# Altium schematic symbol library spacemonochrome-WR_TBL.SchLib: 1696 symbols (part 23 of 28)
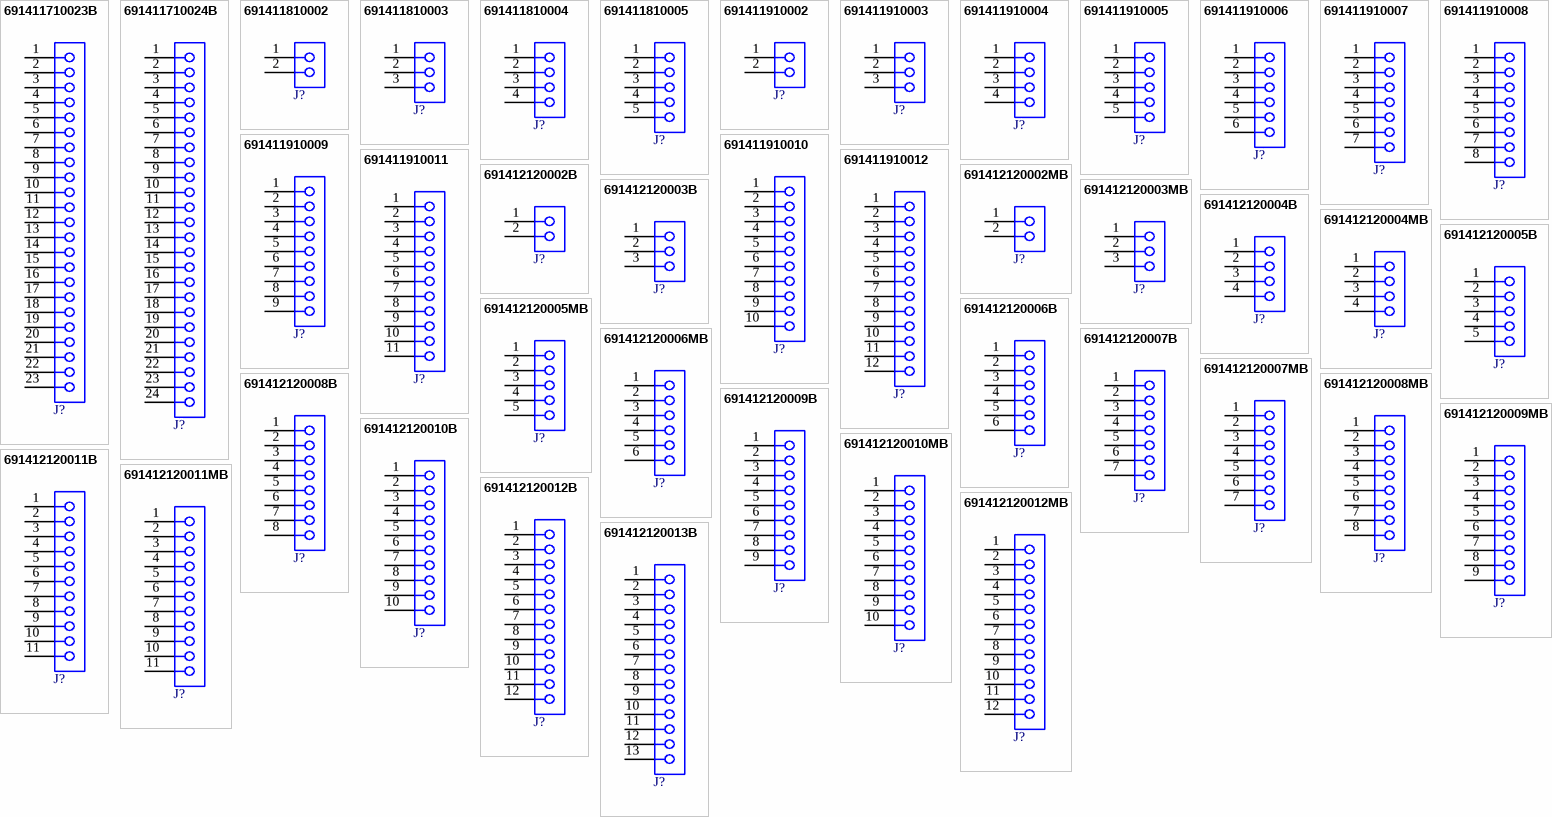
[diagram p64: symbols 691411710023B to 691412120013B]

## 691411810004
designator J?  (value not drawn)
WR-TBL Series 4118 Horizontal Entry, THT, pitch 10mm, 4p; Manufacturer: Wurth Elektronik; Modularity: No; Rated Current: 10A; Working Voltage: 300V; ComponentLink1Description: Website Link; ComponentLink1URL: https://www.we-online.com/redexpert/article/691411810004?ad; ComponentLink2Description: Datasheet Link; ComponentLink2URL: https://www.we-online.com/redexpert/spec/691411810004?ad; Manufacturer Part Number: 691411810004; Category: Terminal Blocks; Match Code: WR-TBL; Mount: Through Hole; Operating Temperature Max: 120°C; Operating Temperature Min: -30°C; Packaging: Box; Application: Screwless; Number of Pins: 4; Number of Rows: 1; Orientation: Horizontal; Pitch: 10mm
footprint 691411810004
pins: 1, 2, 3, 4

## 691411810005
designator J?  (value not drawn)
WR-TBL Series 4118 Horizontal Entry, THT, pitch 10mm, 5p; Manufacturer: Wurth Elektronik; Modularity: No; Rated Current: 10A; Working Voltage: 300V; ComponentLink1Description: Website Link; ComponentLink1URL: https://www.we-online.com/redexpert/article/691411810005?ad; ComponentLink2Description: Datasheet Link; ComponentLink2URL: https://www.we-online.com/redexpert/spec/691411810005?ad; Manufacturer Part Number: 691411810005; Category: Terminal Blocks; Match Code: WR-TBL; Mount: Through Hole; Operating Temperature Max: 120°C; Operating Temperature Min: -30°C; Packaging: Box; Application: Screwless; Number of Pins: 5; Number of Rows: 1; Orientation: Horizontal; Pitch: 10mm
footprint 691411810005
pins: 1, 2, 3, 4, 5

## 691411910002
designator J?  (value not drawn)
WR-TBL Series 4119 Horizontal Entry, THT, pitch 7.5mm, 2p; Manufacturer: Wurth Elektronik; Modularity: No; Rated Current: 10A; Working Voltage: 300V; ComponentLink1Description: Website Link; ComponentLink1URL: https://www.we-online.com/redexpert/article/691411910002?ad; ComponentLink2Description: Datasheet Link; ComponentLink2URL: https://www.we-online.com/redexpert/spec/691411910002?ad; Manufacturer Part Number: 691411910002; Category: Terminal Blocks; Match Code: WR-TBL; Mount: Through Hole; Operating Temperature Max: 120°C; Operating Temperature Min: -30°C; Packaging: Box; Application: Screwless; Number of Pins: 2; Number of Rows: 1; Orientation: Horizontal; Pitch: 7.5mm
footprint 691411910002
pins: 1, 2

## 691411910003
designator J?  (value not drawn)
WR-TBL Series 4119 Horizontal Entry, THT, pitch 7.5mm, 3p; Manufacturer: Wurth Elektronik; Modularity: No; Rated Current: 10A; Working Voltage: 300V; ComponentLink1Description: Website Link; ComponentLink1URL: https://www.we-online.com/redexpert/article/691411910003?ad; ComponentLink2Description: Datasheet Link; ComponentLink2URL: https://www.we-online.com/redexpert/spec/691411910003?ad; Manufacturer Part Number: 691411910003; Category: Terminal Blocks; Match Code: WR-TBL; Mount: Through Hole; Operating Temperature Max: 120°C; Operating Temperature Min: -30°C; Packaging: Box; Application: Screwless; Number of Pins: 3; Number of Rows: 1; Orientation: Horizontal; Pitch: 7.5mm
footprint 691411910003
pins: 1, 2, 3

## 691411910004
designator J?  (value not drawn)
WR-TBL Series 4119 Horizontal Entry, THT, pitch 7.5mm, 4p; Manufacturer: Wurth Elektronik; Modularity: No; Rated Current: 10A; Working Voltage: 300V; ComponentLink1Description: Website Link; ComponentLink1URL: https://www.we-online.com/redexpert/article/691411910004?ad; ComponentLink2Description: Datasheet Link; ComponentLink2URL: https://www.we-online.com/redexpert/spec/691411910004?ad; Manufacturer Part Number: 691411910004; Category: Terminal Blocks; Match Code: WR-TBL; Mount: Through Hole; Operating Temperature Max: 120°C; Operating Temperature Min: -30°C; Packaging: Box; Application: Screwless; Number of Pins: 4; Number of Rows: 1; Orientation: Horizontal; Pitch: 7.5mm
footprint 691411910004
pins: 1, 2, 3, 4

## 691411910005
designator J?  (value not drawn)
WR-TBL Series 4119 Horizontal Entry, THT, pitch 7.5mm, 5p; Manufacturer: Wurth Elektronik; Modularity: No; Rated Current: 10A; Working Voltage: 300V; ComponentLink1Description: Website Link; ComponentLink1URL: https://www.we-online.com/redexpert/article/691411910005?ad; ComponentLink2Description: Datasheet Link; ComponentLink2URL: https://www.we-online.com/redexpert/spec/691411910005?ad; Manufacturer Part Number: 691411910005; Category: Terminal Blocks; Match Code: WR-TBL; Mount: Through Hole; Operating Temperature Max: 120°C; Operating Temperature Min: -30°C; Packaging: Box; Application: Screwless; Number of Pins: 5; Number of Rows: 1; Orientation: Horizontal; Pitch: 7.5mm
footprint 691411910005
pins: 1, 2, 3, 4, 5

## 691411910006
designator J?  (value not drawn)
WR-TBL Series 4119 Horizontal Entry, THT, pitch 7.5mm, 6p; Manufacturer: Wurth Elektronik; Modularity: No; Rated Current: 10A; Working Voltage: 300V; ComponentLink1Description: Website Link; ComponentLink1URL: https://www.we-online.com/redexpert/article/691411910006?ad; ComponentLink2Description: Datasheet Link; ComponentLink2URL: https://www.we-online.com/redexpert/spec/691411910006?ad; Manufacturer Part Number: 691411910006; Category: Terminal Blocks; Match Code: WR-TBL; Mount: Through Hole; Operating Temperature Max: 120°C; Operating Temperature Min: -30°C; Packaging: Box; Application: Screwless; Number of Pins: 6; Number of Rows: 1; Orientation: Horizontal; Pitch: 7.5mm
footprint 691411910006
pins: 1, 2, 3, 4, 5, 6

## 691411910007
designator J?  (value not drawn)
WR-TBL Series 4119 Horizontal Entry, THT, pitch 7.5mm, 7p; Manufacturer: Wurth Elektronik; Modularity: No; Rated Current: 10A; Working Voltage: 300V; ComponentLink1Description: Website Link; ComponentLink1URL: https://www.we-online.com/redexpert/article/691411910007?ad; ComponentLink2Description: Datasheet Link; ComponentLink2URL: https://www.we-online.com/redexpert/spec/691411910007?ad; Manufacturer Part Number: 691411910007; Category: Terminal Blocks; Match Code: WR-TBL; Mount: Through Hole; Operating Temperature Max: 120°C; Operating Temperature Min: -30°C; Packaging: Box; Application: Screwless; Number of Pins: 7; Number of Rows: 1; Orientation: Horizontal; Pitch: 7.5mm
footprint 691411910007
pins: 1, 2, 3, 4, 5, 6, 7

## 691411910008
designator J?  (value not drawn)
WR-TBL Series 4119 Horizontal Entry, THT, pitch 7.5mm, 8p; Manufacturer: Wurth Elektronik; Modularity: No; Rated Current: 10A; Working Voltage: 300V; ComponentLink1Description: Website Link; ComponentLink1URL: https://www.we-online.com/redexpert/article/691411910008?ad; ComponentLink2Description: Datasheet Link; ComponentLink2URL: https://www.we-online.com/redexpert/spec/691411910008?ad; Manufacturer Part Number: 691411910008; Category: Terminal Blocks; Match Code: WR-TBL; Mount: Through Hole; Operating Temperature Max: 120°C; Operating Temperature Min: -30°C; Packaging: Box; Application: Screwless; Number of Pins: 8; Number of Rows: 1; Orientation: Horizontal; Pitch: 7.5mm
footprint 691411910008
pins: 1, 2, 3, 4, 5, 6, 7, 8

## 691411910009
designator J?  (value not drawn)
WR-TBL Series 4119 Horizontal Entry, THT, pitch 7.5mm, 9p; Manufacturer: Wurth Elektronik; Modularity: No; Rated Current: 10A; Working Voltage: 300V; ComponentLink1Description: Website Link; ComponentLink1URL: https://www.we-online.com/redexpert/article/691411910009?ad; ComponentLink2Description: Datasheet Link; ComponentLink2URL: https://www.we-online.com/redexpert/spec/691411910009?ad; Manufacturer Part Number: 691411910009; Category: Terminal Blocks; Match Code: WR-TBL; Mount: Through Hole; Operating Temperature Max: 120°C; Operating Temperature Min: -30°C; Packaging: Box; Application: Screwless; Number of Pins: 9; Number of Rows: 1; Orientation: Horizontal; Pitch: 7.5mm
footprint 691411910009
pins: 1, 2, 3, 4, 5, 6, 7, 8, 9

## 691411910010
designator J?  (value not drawn)
WR-TBL Series 4119 Horizontal Entry, THT, pitch 7.5mm, 10p; Manufacturer: Wurth Elektronik; Modularity: No; Rated Current: 10A; Working Voltage: 300V; ComponentLink1Description: Website Link; ComponentLink1URL: https://www.we-online.com/redexpert/article/691411910010?ad; ComponentLink2Description: Datasheet Link; ComponentLink2URL: https://www.we-online.com/redexpert/spec/691411910010?ad; Manufacturer Part Number: 691411910010; Category: Terminal Blocks; Match Code: WR-TBL; Mount: Through Hole; Operating Temperature Max: 120°C; Operating Temperature Min: -30°C; Packaging: Box; Application: Screwless; Number of Pins: 10; Number of Rows: 1; Orientation: Horizontal; Pitch: 7.5mm
footprint 691411910010
pins: 1, 2, 3, 4, 5, 6, 7, 8, 9, 10

## 691411910011
designator J?  (value not drawn)
WR-TBL Series 4119 Horizontal Entry, THT, pitch 7.5mm, 11p; Manufacturer: Wurth Elektronik; Modularity: No; Rated Current: 10A; Working Voltage: 300V; ComponentLink1Description: Website Link; ComponentLink1URL: https://www.we-online.com/redexpert/article/691411910011?ad; ComponentLink2Description: Datasheet Link; ComponentLink2URL: https://www.we-online.com/redexpert/spec/691411910011?ad; Manufacturer Part Number: 691411910011; Category: Terminal Blocks; Match Code: WR-TBL; Mount: Through Hole; Operating Temperature Max: 120°C; Operating Temperature Min: -30°C; Packaging: Box; Application: Screwless; Number of Pins: 11; Number of Rows: 1; Orientation: Horizontal; Pitch: 7.5mm
footprint 691411910011
pins: 1, 2, 3, 4, 5, 6, 7, 8, 9, 10, 11

## 691411910012
designator J?  (value not drawn)
WR-TBL Series 4119 Horizontal Entry, THT, pitch 7.5mm, 12p; Manufacturer: Wurth Elektronik; Modularity: No; Rated Current: 10A; Working Voltage: 300V; ComponentLink1Description: Website Link; ComponentLink1URL: https://www.we-online.com/redexpert/article/691411910012?ad; ComponentLink2Description: Datasheet Link; ComponentLink2URL: https://www.we-online.com/redexpert/spec/691411910012?ad; Manufacturer Part Number: 691411910012; Category: Terminal Blocks; Match Code: WR-TBL; Mount: Through Hole; Operating Temperature Max: 120°C; Operating Temperature Min: -30°C; Packaging: Box; Application: Screwless; Number of Pins: 12; Number of Rows: 1; Orientation: Horizontal; Pitch: 7.5mm
footprint 691411910012
pins: 1, 2, 3, 4, 5, 6, 7, 8, 9, 10, 11, 12

## 691412120002B
designator J?  (value not drawn)
WR-TBL Series 412B 45° Entry, THT, pitch 3.5mm, 2p; Manufacturer: Wurth Elektronik; Modularity: No; Rated Current: 6A; Working Voltage: 300V; ComponentLink1Description: Website Link; ComponentLink1URL: https://www.we-online.com/redexpert/article/691412120002B?ad; ComponentLink2Description: Datasheet Link; ComponentLink2URL: https://www.we-online.com/redexpert/spec/691412120002B?ad; Manufacturer Part Number: 691412120002B; Category: Terminal Blocks; Match Code: WR-TBL; Mount: Through Hole; Operating Temperature Max: 105°C; Operating Temperature Min: -40°C; Packaging: Box; Application: Screwless; Number of Pins: 2; Number of Rows: 1; Orientation: 45°; Pitch: 3.5mm
footprint 691412120002B
pins: 1, 2

## 691412120002MB
designator J?  (value not drawn)
WR-TBL Series 412MB 45° Entry, THT, pitch 3.5mm, 2p; Manufacturer: Wurth Elektronik; Modularity: No; Rated Current: 6A; Working Voltage: 300V; ComponentLink1Description: Website Link; ComponentLink1URL: https://www.we-online.com/redexpert/article/691412120002MB?ad; ComponentLink2Description: Datasheet Link; ComponentLink2URL: https://www.we-online.com/redexpert/spec/691412120002MB?ad; Manufacturer Part Number: 691412120002MB; Category: Terminal Blocks; Match Code: WR-TBL; Mount: Through Hole; Operating Temperature Max: 105°C; Operating Temperature Min: -40°C; Packaging: Box; Application: Screwless; Number of Pins: 2; Number of Rows: 1; Orientation: 45°; Pitch: 3.5mm
footprint 691412120002MB
pins: 1, 2

## 691412120003B
designator J?  (value not drawn)
WR-TBL Series 412B 45° Entry, THT, pitch 3.5mm, 3p; Manufacturer: Wurth Elektronik; Modularity: No; Rated Current: 6A; Working Voltage: 300V; ComponentLink1Description: Website Link; ComponentLink1URL: https://www.we-online.com/redexpert/article/691412120003B?ad; ComponentLink2Description: Datasheet Link; ComponentLink2URL: https://www.we-online.com/redexpert/spec/691412120003B?ad; Manufacturer Part Number: 691412120003B; Category: Terminal Blocks; Match Code: WR-TBL; Mount: Through Hole; Operating Temperature Max: 105°C; Operating Temperature Min: -40°C; Packaging: Box; Application: Screwless; Number of Pins: 3; Number of Rows: 1; Orientation: 45°; Pitch: 3.5mm
footprint 691412120003B
pins: 1, 2, 3

## 691412120003MB
designator J?  (value not drawn)
WR-TBL Series 412MB 45° Entry, THT, pitch 3.5mm, 3p; Manufacturer: Wurth Elektronik; Modularity: No; Rated Current: 6A; Working Voltage: 300V; ComponentLink1Description: Website Link; ComponentLink1URL: https://www.we-online.com/redexpert/article/691412120003MB?ad; ComponentLink2Description: Datasheet Link; ComponentLink2URL: https://www.we-online.com/redexpert/spec/691412120003MB?ad; Manufacturer Part Number: 691412120003MB; Category: Terminal Blocks; Match Code: WR-TBL; Mount: Through Hole; Operating Temperature Max: 105°C; Operating Temperature Min: -40°C; Packaging: Box; Application: Screwless; Number of Pins: 3; Number of Rows: 1; Orientation: 45°; Pitch: 3.5mm
footprint 691412120003MB
pins: 1, 2, 3

## 691412120004B
designator J?  (value not drawn)
WR-TBL Series 412B 45° Entry, THT, pitch 3.5mm, 4p; Manufacturer: Wurth Elektronik; Modularity: No; Rated Current: 6A; Working Voltage: 300V; ComponentLink1Description: Website Link; ComponentLink1URL: https://www.we-online.com/redexpert/article/691412120004B?ad; ComponentLink2Description: Datasheet Link; ComponentLink2URL: https://www.we-online.com/redexpert/spec/691412120004B?ad; Manufacturer Part Number: 691412120004B; Category: Terminal Blocks; Match Code: WR-TBL; Mount: Through Hole; Operating Temperature Max: 105°C; Operating Temperature Min: -40°C; Packaging: Box; Application: Screwless; Number of Pins: 4; Number of Rows: 1; Orientation: 45°; Pitch: 3.5mm
footprint 691412120004B
pins: 1, 2, 3, 4

## 691412120004MB
designator J?  (value not drawn)
WR-TBL Series 412MB 45° Entry, THT, pitch 3.5mm, 4p; Manufacturer: Wurth Elektronik; Modularity: No; Rated Current: 6A; Working Voltage: 300V; ComponentLink1Description: Website Link; ComponentLink1URL: https://www.we-online.com/redexpert/article/691412120004MB?ad; ComponentLink2Description: Datasheet Link; ComponentLink2URL: https://www.we-online.com/redexpert/spec/691412120004MB?ad; Manufacturer Part Number: 691412120004MB; Category: Terminal Blocks; Match Code: WR-TBL; Mount: Through Hole; Operating Temperature Max: 105°C; Operating Temperature Min: -40°C; Packaging: Box; Application: Screwless; Number of Pins: 4; Number of Rows: 1; Orientation: 45°; Pitch: 3.5mm
footprint 691412120004MB
pins: 1, 2, 3, 4

## 691412120005B
designator J?  (value not drawn)
WR-TBL Series 412B 45° Entry, THT, pitch 3.5mm, 5p; Manufacturer: Wurth Elektronik; Modularity: No; Rated Current: 6A; Working Voltage: 300V; ComponentLink1Description: Website Link; ComponentLink1URL: https://www.we-online.com/redexpert/article/691412120005B?ad; ComponentLink2Description: Datasheet Link; ComponentLink2URL: https://www.we-online.com/redexpert/spec/691412120005B?ad; Manufacturer Part Number: 691412120005B; Category: Terminal Blocks; Match Code: WR-TBL; Mount: Through Hole; Operating Temperature Max: 105°C; Operating Temperature Min: -40°C; Packaging: Box; Application: Screwless; Number of Pins: 5; Number of Rows: 1; Orientation: 45°; Pitch: 3.5mm
footprint 691412120005B
pins: 1, 2, 3, 4, 5

## 691412120005MB
designator J?  (value not drawn)
WR-TBL Series 412MB 45° Entry, THT, pitch 3.5mm, 5p; Manufacturer: Wurth Elektronik; Modularity: No; Rated Current: 6A; Working Voltage: 300V; ComponentLink1Description: Website Link; ComponentLink1URL: https://www.we-online.com/redexpert/article/691412120005MB?ad; ComponentLink2Description: Datasheet Link; ComponentLink2URL: https://www.we-online.com/redexpert/spec/691412120005MB?ad; Manufacturer Part Number: 691412120005MB; Category: Terminal Blocks; Match Code: WR-TBL; Mount: Through Hole; Operating Temperature Max: 105°C; Operating Temperature Min: -40°C; Packaging: Box; Application: Screwless; Number of Pins: 5; Number of Rows: 1; Orientation: 45°; Pitch: 3.5mm
footprint 691412120005MB
pins: 1, 2, 3, 4, 5

## 691412120006B
designator J?  (value not drawn)
WR-TBL Series 412B 45° Entry, THT, pitch 3.5mm, 6p; Manufacturer: Wurth Elektronik; Modularity: No; Rated Current: 6A; Working Voltage: 300V; ComponentLink1Description: Website Link; ComponentLink1URL: https://www.we-online.com/redexpert/article/691412120006B?ad; ComponentLink2Description: Datasheet Link; ComponentLink2URL: https://www.we-online.com/redexpert/spec/691412120006B?ad; Manufacturer Part Number: 691412120006B; Category: Terminal Blocks; Match Code: WR-TBL; Mount: Through Hole; Operating Temperature Max: 105°C; Operating Temperature Min: -40°C; Packaging: Box; Application: Screwless; Number of Pins: 6; Number of Rows: 1; Orientation: 45°; Pitch: 3.5mm
footprint 691412120006B
pins: 1, 2, 3, 4, 5, 6

## 691412120006MB
designator J?  (value not drawn)
WR-TBL Series 412MB 45° Entry, THT, pitch 3.5mm, 6p; Manufacturer: Wurth Elektronik; Modularity: No; Rated Current: 6A; Working Voltage: 300V; ComponentLink1Description: Website Link; ComponentLink1URL: https://www.we-online.com/redexpert/article/691412120006MB?ad; ComponentLink2Description: Datasheet Link; ComponentLink2URL: https://www.we-online.com/redexpert/spec/691412120006MB?ad; Manufacturer Part Number: 691412120006MB; Category: Terminal Blocks; Match Code: WR-TBL; Mount: Through Hole; Operating Temperature Max: 105°C; Operating Temperature Min: -40°C; Packaging: Box; Application: Screwless; Number of Pins: 6; Number of Rows: 1; Orientation: 45°; Pitch: 3.5mm
footprint 691412120006MB
pins: 1, 2, 3, 4, 5, 6

## 691412120007B
designator J?  (value not drawn)
WR-TBL Series 412B 45° Entry, THT, pitch 3.5mm, 7p; Manufacturer: Wurth Elektronik; Modularity: No; Rated Current: 6A; Working Voltage: 300V; ComponentLink1Description: Website Link; ComponentLink1URL: https://www.we-online.com/redexpert/article/691412120007B?ad; ComponentLink2Description: Datasheet Link; ComponentLink2URL: https://www.we-online.com/redexpert/spec/691412120007B?ad; Manufacturer Part Number: 691412120007B; Category: Terminal Blocks; Match Code: WR-TBL; Mount: Through Hole; Operating Temperature Max: 105°C; Operating Temperature Min: -40°C; Packaging: Box; Application: Screwless; Number of Pins: 7; Number of Rows: 1; Orientation: 45°; Pitch: 3.5mm
footprint 691412120007B
pins: 1, 2, 3, 4, 5, 6, 7

## 691412120007MB
designator J?  (value not drawn)
WR-TBL Series 412MB 45° Entry, THT, pitch 3.5mm, 7p; Manufacturer: Wurth Elektronik; Modularity: No; Rated Current: 6A; Working Voltage: 300V; ComponentLink1Description: Website Link; ComponentLink1URL: https://www.we-online.com/redexpert/article/691412120007MB?ad; ComponentLink2Description: Datasheet Link; ComponentLink2URL: https://www.we-online.com/redexpert/spec/691412120007MB?ad; Manufacturer Part Number: 691412120007MB; Category: Terminal Blocks; Match Code: WR-TBL; Mount: Through Hole; Operating Temperature Max: 105°C; Operating Temperature Min: -40°C; Packaging: Box; Application: Screwless; Number of Pins: 7; Number of Rows: 1; Orientation: 45°; Pitch: 3.5mm
footprint 691412120007MB
pins: 1, 2, 3, 4, 5, 6, 7

## 691412120008B
designator J?  (value not drawn)
WR-TBL Series 412B 45° Entry, THT, pitch 3.5mm, 8p; Manufacturer: Wurth Elektronik; Modularity: No; Rated Current: 6A; Working Voltage: 300V; ComponentLink1Description: Website Link; ComponentLink1URL: https://www.we-online.com/redexpert/article/691412120008B?ad; ComponentLink2Description: Datasheet Link; ComponentLink2URL: https://www.we-online.com/redexpert/spec/691412120008B?ad; Manufacturer Part Number: 691412120008B; Category: Terminal Blocks; Match Code: WR-TBL; Mount: Through Hole; Operating Temperature Max: 105°C; Operating Temperature Min: -40°C; Packaging: Box; Application: Screwless; Number of Pins: 8; Number of Rows: 1; Orientation: 45°; Pitch: 3.5mm
footprint 691412120008B
pins: 1, 2, 3, 4, 5, 6, 7, 8

## 691412120008MB
designator J?  (value not drawn)
WR-TBL Series 412MB 45° Entry, THT, pitch 3.5mm, 8p; Manufacturer: Wurth Elektronik; Modularity: No; Rated Current: 6A; Working Voltage: 300V; ComponentLink1Description: Website Link; ComponentLink1URL: https://www.we-online.com/redexpert/article/691412120008MB?ad; ComponentLink2Description: Datasheet Link; ComponentLink2URL: https://www.we-online.com/redexpert/spec/691412120008MB?ad; Manufacturer Part Number: 691412120008MB; Category: Terminal Blocks; Match Code: WR-TBL; Mount: Through Hole; Operating Temperature Max: 105°C; Operating Temperature Min: -40°C; Packaging: Box; Application: Screwless; Number of Pins: 8; Number of Rows: 1; Orientation: 45°; Pitch: 3.5mm
footprint 691412120008MB
pins: 1, 2, 3, 4, 5, 6, 7, 8

## 691412120009B
designator J?  (value not drawn)
WR-TBL Series 412B 45° Entry, THT, pitch 3.5mm, 9p; Manufacturer: Wurth Elektronik; Modularity: No; Rated Current: 6A; Working Voltage: 300V; ComponentLink1Description: Website Link; ComponentLink1URL: https://www.we-online.com/redexpert/article/691412120009B?ad; ComponentLink2Description: Datasheet Link; ComponentLink2URL: https://www.we-online.com/redexpert/spec/691412120009B?ad; Manufacturer Part Number: 691412120009B; Category: Terminal Blocks; Match Code: WR-TBL; Mount: Through Hole; Operating Temperature Max: 105°C; Operating Temperature Min: -40°C; Packaging: Box; Application: Screwless; Number of Pins: 9; Number of Rows: 1; Orientation: 45°; Pitch: 3.5mm
footprint 691412120009B
pins: 1, 2, 3, 4, 5, 6, 7, 8, 9

## 691412120009MB
designator J?  (value not drawn)
WR-TBL Series 412MB 45° Entry, THT, pitch 3.5mm, 9p; Manufacturer: Wurth Elektronik; Modularity: No; Rated Current: 6A; Working Voltage: 300V; ComponentLink1Description: Website Link; ComponentLink1URL: https://www.we-online.com/redexpert/article/691412120009MB?ad; ComponentLink2Description: Datasheet Link; ComponentLink2URL: https://www.we-online.com/redexpert/spec/691412120009MB?ad; Manufacturer Part Number: 691412120009MB; Category: Terminal Blocks; Match Code: WR-TBL; Mount: Through Hole; Operating Temperature Max: 105°C; Operating Temperature Min: -40°C; Packaging: Box; Application: Screwless; Number of Pins: 9; Number of Rows: 1; Orientation: 45°; Pitch: 3.5mm
footprint 691412120009MB
pins: 1, 2, 3, 4, 5, 6, 7, 8, 9

## 691412120010B
designator J?  (value not drawn)
WR-TBL Series 412B 45° Entry, THT, pitch 3.5mm, 10p; Manufacturer: Wurth Elektronik; Modularity: No; Rated Current: 6A; Working Voltage: 300V; ComponentLink1Description: Website Link; ComponentLink1URL: https://www.we-online.com/redexpert/article/691412120010B?ad; ComponentLink2Description: Datasheet Link; ComponentLink2URL: https://www.we-online.com/redexpert/spec/691412120010B?ad; Manufacturer Part Number: 691412120010B; Category: Terminal Blocks; Match Code: WR-TBL; Mount: Through Hole; Operating Temperature Max: 105°C; Operating Temperature Min: -40°C; Packaging: Box; Application: Screwless; Number of Pins: 10; Number of Rows: 1; Orientation: 45°; Pitch: 3.5mm
footprint 691412120010B
pins: 1, 2, 3, 4, 5, 6, 7, 8, 9, 10

## 691412120010MB
designator J?  (value not drawn)
WR-TBL Series 412MB 45° Entry, THT, pitch 3.5mm, 10p; Manufacturer: Wurth Elektronik; Modularity: No; Rated Current: 6A; Working Voltage: 300V; ComponentLink1Description: Website Link; ComponentLink1URL: https://www.we-online.com/redexpert/article/691412120010MB?ad; ComponentLink2Description: Datasheet Link; ComponentLink2URL: https://www.we-online.com/redexpert/spec/691412120010MB?ad; Manufacturer Part Number: 691412120010MB; Category: Terminal Blocks; Match Code: WR-TBL; Mount: Through Hole; Operating Temperature Max: 105°C; Operating Temperature Min: -40°C; Packaging: Box; Application: Screwless; Number of Pins: 10; Number of Rows: 1; Orientation: 45°; Pitch: 3.5mm
footprint 691412120010MB
pins: 1, 2, 3, 4, 5, 6, 7, 8, 9, 10

## 691412120011B
designator J?  (value not drawn)
WR-TBL Series 412B 45° Entry, THT, pitch 3.5mm, 11p; Manufacturer: Wurth Elektronik; Modularity: No; Rated Current: 6A; Working Voltage: 300V; ComponentLink1Description: Website Link; ComponentLink1URL: https://www.we-online.com/redexpert/article/691412120011B?ad; ComponentLink2Description: Datasheet Link; ComponentLink2URL: https://www.we-online.com/redexpert/spec/691412120011B?ad; Manufacturer Part Number: 691412120011B; Category: Terminal Blocks; Match Code: WR-TBL; Mount: Through Hole; Operating Temperature Max: 105°C; Operating Temperature Min: -40°C; Packaging: Box; Application: Screwless; Number of Pins: 11; Number of Rows: 1; Orientation: 45°; Pitch: 3.5mm
footprint 691412120011B
pins: 1, 2, 3, 4, 5, 6, 7, 8, 9, 10, 11

## 691412120011MB
designator J?  (value not drawn)
WR-TBL Series 412MB 45° Entry, THT, pitch 3.5mm, 11p; Manufacturer: Wurth Elektronik; Modularity: No; Rated Current: 6A; Working Voltage: 300V; ComponentLink1Description: Website Link; ComponentLink1URL: https://www.we-online.com/redexpert/article/691412120011MB?ad; ComponentLink2Description: Datasheet Link; ComponentLink2URL: https://www.we-online.com/redexpert/spec/691412120011MB?ad; Manufacturer Part Number: 691412120011MB; Category: Terminal Blocks; Match Code: WR-TBL; Mount: Through Hole; Operating Temperature Max: 105°C; Operating Temperature Min: -40°C; Packaging: Box; Application: Screwless; Number of Pins: 11; Number of Rows: 1; Orientation: 45°; Pitch: 3.5mm
footprint 691412120011MB
pins: 1, 2, 3, 4, 5, 6, 7, 8, 9, 10, 11

## 691412120012B
designator J?  (value not drawn)
WR-TBL Series 412B 45° Entry, THT, pitch 3.5mm, 12p; Manufacturer: Wurth Elektronik; Modularity: No; Rated Current: 6A; Working Voltage: 300V; ComponentLink1Description: Website Link; ComponentLink1URL: https://www.we-online.com/redexpert/article/691412120012B?ad; ComponentLink2Description: Datasheet Link; ComponentLink2URL: https://www.we-online.com/redexpert/spec/691412120012B?ad; Manufacturer Part Number: 691412120012B; Category: Terminal Blocks; Match Code: WR-TBL; Mount: Through Hole; Operating Temperature Max: 105°C; Operating Temperature Min: -40°C; Packaging: Box; Application: Screwless; Number of Pins: 12; Number of Rows: 1; Orientation: 45°; Pitch: 3.5mm
footprint 691412120012B
pins: 1, 2, 3, 4, 5, 6, 7, 8, 9, 10, 11, 12

## 691412120012MB
designator J?  (value not drawn)
WR-TBL Series 412MB 45° Entry, THT, pitch 3.5mm, 12p; Manufacturer: Wurth Elektronik; Modularity: No; Rated Current: 6A; Working Voltage: 300V; ComponentLink1Description: Website Link; ComponentLink1URL: https://www.we-online.com/redexpert/article/691412120012MB?ad; ComponentLink2Description: Datasheet Link; ComponentLink2URL: https://www.we-online.com/redexpert/spec/691412120012MB?ad; Manufacturer Part Number: 691412120012MB; Category: Terminal Blocks; Match Code: WR-TBL; Mount: Through Hole; Operating Temperature Max: 105°C; Operating Temperature Min: -40°C; Packaging: Box; Application: Screwless; Number of Pins: 12; Number of Rows: 1; Orientation: 45°; Pitch: 3.5mm
footprint 691412120012MB
pins: 1, 2, 3, 4, 5, 6, 7, 8, 9, 10, 11, 12

## 691412120013B
designator J?  (value not drawn)
WR-TBL Series 412B 45° Entry, THT, pitch 3.5mm, 13p; Manufacturer: Wurth Elektronik; Modularity: No; Rated Current: 6A; Working Voltage: 300V; ComponentLink1Description: Website Link; ComponentLink1URL: https://www.we-online.com/redexpert/article/691412120013B?ad; ComponentLink2Description: Datasheet Link; ComponentLink2URL: https://www.we-online.com/redexpert/spec/691412120013B?ad; Manufacturer Part Number: 691412120013B; Category: Terminal Blocks; Match Code: WR-TBL; Mount: Through Hole; Operating Temperature Max: 105°C; Operating Temperature Min: -40°C; Packaging: Box; Application: Screwless; Number of Pins: 13; Number of Rows: 1; Orientation: 45°; Pitch: 3.5mm
footprint 691412120013B
pins: 1, 2, 3, 4, 5, 6, 7, 8, 9, 10, 11, 12, 13

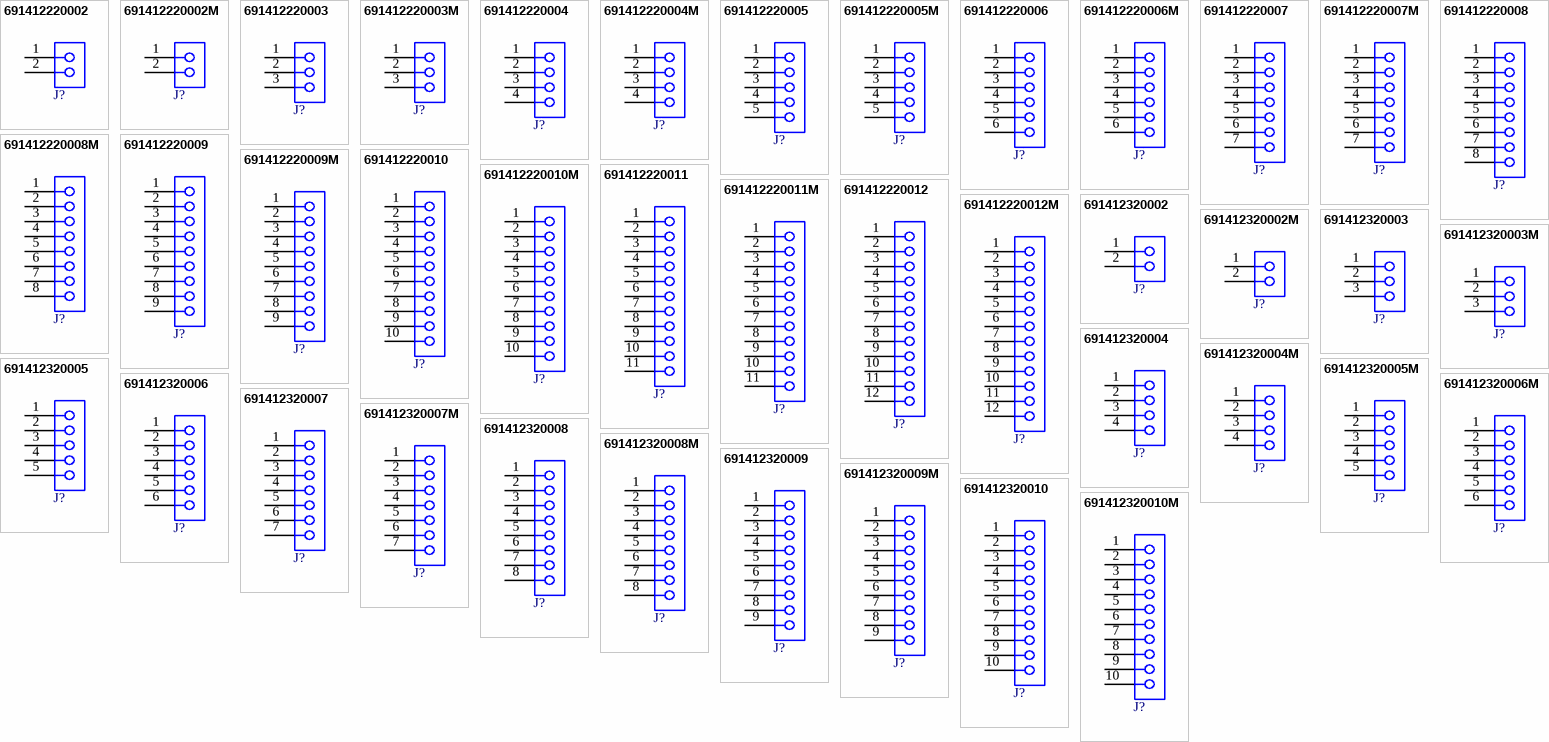
[diagram p35: symbols 691412220002 to 691412320010M]

## 691412220002
designator J?  (value not drawn)
WR-TBL Series 4122 45° Entry, THT, pitch 7mm, 2p; Manufacturer: Wurth Elektronik; Modularity: No; Rated Current: 4A; Working Voltage: 300V; ComponentLink1Description: Website Link; ComponentLink1URL: https://www.we-online.com/redexpert/article/691412220002?ad; ComponentLink2Description: Datasheet Link; ComponentLink2URL: https://www.we-online.com/redexpert/spec/691412220002?ad; Manufacturer Part Number: 691412220002; Category: Terminal Blocks; Match Code: WR-TBL; Mount: Through Hole; Operating Temperature Max: 120°C; Operating Temperature Min: -30°C; Packaging: Box; Application: Screwless; Number of Pins: 2; Number of Rows: 1; Orientation: 45°; Pitch: 7mm
footprint 691412220002
pins: 1, 2

## 691412220002M
designator J?  (value not drawn)
WR-TBL Series 4122M 45° Entry, THT, pitch 7mm, 2p; Manufacturer: Wurth Elektronik; Modularity: No; Rated Current: 4A; Working Voltage: 300V; ComponentLink1Description: Website Link; ComponentLink1URL: https://www.we-online.com/redexpert/article/691412220002M?ad; ComponentLink2Description: Datasheet Link; ComponentLink2URL: https://www.we-online.com/redexpert/spec/691412220002M?ad; Manufacturer Part Number: 691412220002M; Category: Terminal Blocks; Match Code: WR-TBL; Mount: Through Hole; Operating Temperature Max: 120°C; Operating Temperature Min: -30°C; Packaging: Box; Application: Screwless; Number of Pins: 2; Number of Rows: 1; Orientation: 45°; Pitch: 7mm
footprint 691412220002M
pins: 1, 2

## 691412220003
designator J?  (value not drawn)
WR-TBL Series 4122 45° Entry, THT, pitch 7mm, 3p; Manufacturer: Wurth Elektronik; Modularity: No; Rated Current: 4A; Working Voltage: 300V; ComponentLink1Description: Website Link; ComponentLink1URL: https://www.we-online.com/redexpert/article/691412220003?ad; ComponentLink2Description: Datasheet Link; ComponentLink2URL: https://www.we-online.com/redexpert/spec/691412220003?ad; Manufacturer Part Number: 691412220003; Category: Terminal Blocks; Match Code: WR-TBL; Mount: Through Hole; Operating Temperature Max: 120°C; Operating Temperature Min: -30°C; Packaging: Box; Application: Screwless; Number of Pins: 3; Number of Rows: 1; Orientation: 45°; Pitch: 7mm
footprint 691412220003
pins: 1, 2, 3

## 691412220003M
designator J?  (value not drawn)
WR-TBL Series 4122M 45° Entry, THT, pitch 7mm, 3p; Manufacturer: Wurth Elektronik; Modularity: No; Rated Current: 4A; Working Voltage: 300V; ComponentLink1Description: Website Link; ComponentLink1URL: https://www.we-online.com/redexpert/article/691412220003M?ad; ComponentLink2Description: Datasheet Link; ComponentLink2URL: https://www.we-online.com/redexpert/spec/691412220003M?ad; Manufacturer Part Number: 691412220003M; Category: Terminal Blocks; Match Code: WR-TBL; Mount: Through Hole; Operating Temperature Max: 120°C; Operating Temperature Min: -30°C; Packaging: Box; Application: Screwless; Number of Pins: 3; Number of Rows: 1; Orientation: 45°; Pitch: 7mm
footprint 691412220003M
pins: 1, 2, 3

## 691412220004
designator J?  (value not drawn)
WR-TBL Series 4122 45° Entry, THT, pitch 7mm, 4p; Manufacturer: Wurth Elektronik; Modularity: No; Rated Current: 4A; Working Voltage: 300V; ComponentLink1Description: Website Link; ComponentLink1URL: https://www.we-online.com/redexpert/article/691412220004?ad; ComponentLink2Description: Datasheet Link; ComponentLink2URL: https://www.we-online.com/redexpert/spec/691412220004?ad; Manufacturer Part Number: 691412220004; Category: Terminal Blocks; Match Code: WR-TBL; Mount: Through Hole; Operating Temperature Max: 120°C; Operating Temperature Min: -30°C; Packaging: Box; Application: Screwless; Number of Pins: 4; Number of Rows: 1; Orientation: 45°; Pitch: 7mm
footprint 691412220004
pins: 1, 2, 3, 4

## 691412220004M
designator J?  (value not drawn)
WR-TBL Series 4122M 45° Entry, THT, pitch 7mm, 4p; Manufacturer: Wurth Elektronik; Modularity: No; Rated Current: 4A; Working Voltage: 300V; ComponentLink1Description: Website Link; ComponentLink1URL: https://www.we-online.com/redexpert/article/691412220004M?ad; ComponentLink2Description: Datasheet Link; ComponentLink2URL: https://www.we-online.com/redexpert/spec/691412220004M?ad; Manufacturer Part Number: 691412220004M; Category: Terminal Blocks; Match Code: WR-TBL; Mount: Through Hole; Operating Temperature Max: 120°C; Operating Temperature Min: -30°C; Packaging: Box; Application: Screwless; Number of Pins: 4; Number of Rows: 1; Orientation: 45°; Pitch: 7mm
footprint 691412220004M
pins: 1, 2, 3, 4

## 691412220005
designator J?  (value not drawn)
WR-TBL Series 4122 45° Entry, THT, pitch 7mm, 5p; Manufacturer: Wurth Elektronik; Modularity: No; Rated Current: 4A; Working Voltage: 300V; ComponentLink1Description: Website Link; ComponentLink1URL: https://www.we-online.com/redexpert/article/691412220005?ad; ComponentLink2Description: Datasheet Link; ComponentLink2URL: https://www.we-online.com/redexpert/spec/691412220005?ad; Manufacturer Part Number: 691412220005; Category: Terminal Blocks; Match Code: WR-TBL; Mount: Through Hole; Operating Temperature Max: 120°C; Operating Temperature Min: -30°C; Packaging: Box; Application: Screwless; Number of Pins: 5; Number of Rows: 1; Orientation: 45°; Pitch: 7mm
footprint 691412220005
pins: 1, 2, 3, 4, 5

## 691412220005M
designator J?  (value not drawn)
WR-TBL Series 4122M 45° Entry, THT, pitch 7mm, 5p; Manufacturer: Wurth Elektronik; Modularity: No; Rated Current: 4A; Working Voltage: 300V; ComponentLink1Description: Website Link; ComponentLink1URL: https://www.we-online.com/redexpert/article/691412220005M?ad; ComponentLink2Description: Datasheet Link; ComponentLink2URL: https://www.we-online.com/redexpert/spec/691412220005M?ad; Manufacturer Part Number: 691412220005M; Category: Terminal Blocks; Match Code: WR-TBL; Mount: Through Hole; Operating Temperature Max: 120°C; Operating Temperature Min: -30°C; Packaging: Box; Application: Screwless; Number of Pins: 5; Number of Rows: 1; Orientation: 45°; Pitch: 7mm
footprint 691412220005M
pins: 1, 2, 3, 4, 5

## 691412220006
designator J?  (value not drawn)
WR-TBL Series 4122 45° Entry, THT, pitch 7mm, 6p; Manufacturer: Wurth Elektronik; Modularity: No; Rated Current: 4A; Working Voltage: 300V; ComponentLink1Description: Website Link; ComponentLink1URL: https://www.we-online.com/redexpert/article/691412220006?ad; ComponentLink2Description: Datasheet Link; ComponentLink2URL: https://www.we-online.com/redexpert/spec/691412220006?ad; Manufacturer Part Number: 691412220006; Category: Terminal Blocks; Match Code: WR-TBL; Mount: Through Hole; Operating Temperature Max: 120°C; Operating Temperature Min: -30°C; Packaging: Box; Application: Screwless; Number of Pins: 6; Number of Rows: 1; Orientation: 45°; Pitch: 7mm
footprint 691412220006
pins: 1, 2, 3, 4, 5, 6

## 691412220006M
designator J?  (value not drawn)
WR-TBL Series 4122M 45° Entry, THT, pitch 7mm, 6p; Manufacturer: Wurth Elektronik; Modularity: No; Rated Current: 4A; Working Voltage: 300V; ComponentLink1Description: Website Link; ComponentLink1URL: https://www.we-online.com/redexpert/article/691412220006M?ad; ComponentLink2Description: Datasheet Link; ComponentLink2URL: https://www.we-online.com/redexpert/spec/691412220006M?ad; Manufacturer Part Number: 691412220006M; Category: Terminal Blocks; Match Code: WR-TBL; Mount: Through Hole; Operating Temperature Max: 120°C; Operating Temperature Min: -30°C; Packaging: Box; Application: Screwless; Number of Pins: 6; Number of Rows: 1; Orientation: 45°; Pitch: 7mm
footprint 691412220006M
pins: 1, 2, 3, 4, 5, 6

## 691412220007
designator J?  (value not drawn)
WR-TBL Series 4122 45° Entry, THT, pitch 7mm, 7p; Manufacturer: Wurth Elektronik; Modularity: No; Rated Current: 4A; Working Voltage: 300V; ComponentLink1Description: Website Link; ComponentLink1URL: https://www.we-online.com/redexpert/article/691412220007?ad; ComponentLink2Description: Datasheet Link; ComponentLink2URL: https://www.we-online.com/redexpert/spec/691412220007?ad; Manufacturer Part Number: 691412220007; Category: Terminal Blocks; Match Code: WR-TBL; Mount: Through Hole; Operating Temperature Max: 120°C; Operating Temperature Min: -30°C; Packaging: Box; Application: Screwless; Number of Pins: 7; Number of Rows: 1; Orientation: 45°; Pitch: 7mm
footprint 691412220007
pins: 1, 2, 3, 4, 5, 6, 7

## 691412220007M
designator J?  (value not drawn)
WR-TBL Series 4122M 45° Entry, THT, pitch 7mm, 7p; Manufacturer: Wurth Elektronik; Modularity: No; Rated Current: 4A; Working Voltage: 300V; ComponentLink1Description: Website Link; ComponentLink1URL: https://www.we-online.com/redexpert/article/691412220007M?ad; ComponentLink2Description: Datasheet Link; ComponentLink2URL: https://www.we-online.com/redexpert/spec/691412220007M?ad; Manufacturer Part Number: 691412220007M; Category: Terminal Blocks; Match Code: WR-TBL; Mount: Through Hole; Operating Temperature Max: 120°C; Operating Temperature Min: -30°C; Packaging: Box; Application: Screwless; Number of Pins: 7; Number of Rows: 1; Orientation: 45°; Pitch: 7mm
footprint 691412220007M
pins: 1, 2, 3, 4, 5, 6, 7

## 691412220008
designator J?  (value not drawn)
WR-TBL Series 4122 45° Entry, THT, pitch 7mm, 8p; Manufacturer: Wurth Elektronik; Modularity: No; Rated Current: 4A; Working Voltage: 300V; ComponentLink1Description: Website Link; ComponentLink1URL: https://www.we-online.com/redexpert/article/691412220008?ad; ComponentLink2Description: Datasheet Link; ComponentLink2URL: https://www.we-online.com/redexpert/spec/691412220008?ad; Manufacturer Part Number: 691412220008; Category: Terminal Blocks; Match Code: WR-TBL; Mount: Through Hole; Operating Temperature Max: 120°C; Operating Temperature Min: -30°C; Packaging: Box; Application: Screwless; Number of Pins: 8; Number of Rows: 1; Orientation: 45°; Pitch: 7mm
footprint 691412220008
pins: 1, 2, 3, 4, 5, 6, 7, 8

## 691412220008M
designator J?  (value not drawn)
WR-TBL Series 4122M 45° Entry, THT, pitch 7mm, 8p; Manufacturer: Wurth Elektronik; Modularity: No; Rated Current: 4A; Working Voltage: 300V; ComponentLink1Description: Website Link; ComponentLink1URL: https://www.we-online.com/redexpert/article/691412220008M?ad; ComponentLink2Description: Datasheet Link; ComponentLink2URL: https://www.we-online.com/redexpert/spec/691412220008M?ad; Manufacturer Part Number: 691412220008M; Category: Terminal Blocks; Match Code: WR-TBL; Mount: Through Hole; Operating Temperature Max: 120°C; Operating Temperature Min: -30°C; Packaging: Box; Application: Screwless; Number of Pins: 8; Number of Rows: 1; Orientation: 45°; Pitch: 7mm
footprint 691412220008M
pins: 1, 2, 3, 4, 5, 6, 7, 8

## 691412220009
designator J?  (value not drawn)
WR-TBL Series 4122 45° Entry, THT, pitch 7mm, 9p; Manufacturer: Wurth Elektronik; Modularity: No; Rated Current: 4A; Working Voltage: 300V; ComponentLink1Description: Website Link; ComponentLink1URL: https://www.we-online.com/redexpert/article/691412220009?ad; ComponentLink2Description: Datasheet Link; ComponentLink2URL: https://www.we-online.com/redexpert/spec/691412220009?ad; Manufacturer Part Number: 691412220009; Category: Terminal Blocks; Match Code: WR-TBL; Mount: Through Hole; Operating Temperature Max: 120°C; Operating Temperature Min: -30°C; Packaging: Box; Application: Screwless; Number of Pins: 9; Number of Rows: 1; Orientation: 45°; Pitch: 7mm
footprint 691412220009
pins: 1, 2, 3, 4, 5, 6, 7, 8, 9

## 691412220009M
designator J?  (value not drawn)
WR-TBL Series 4122M 45° Entry, THT, pitch 7mm, 9p; Manufacturer: Wurth Elektronik; Modularity: No; Rated Current: 4A; Working Voltage: 300V; ComponentLink1Description: Website Link; ComponentLink1URL: https://www.we-online.com/redexpert/article/691412220009M?ad; ComponentLink2Description: Datasheet Link; ComponentLink2URL: https://www.we-online.com/redexpert/spec/691412220009M?ad; Manufacturer Part Number: 691412220009M; Category: Terminal Blocks; Match Code: WR-TBL; Mount: Through Hole; Operating Temperature Max: 120°C; Operating Temperature Min: -30°C; Packaging: Box; Application: Screwless; Number of Pins: 9; Number of Rows: 1; Orientation: 45°; Pitch: 7mm
footprint 691412220009M
pins: 1, 2, 3, 4, 5, 6, 7, 8, 9

## 691412220010
designator J?  (value not drawn)
WR-TBL Series 4122 45° Entry, THT, pitch 7mm, 10p; Manufacturer: Wurth Elektronik; Modularity: No; Rated Current: 4A; Working Voltage: 300V; ComponentLink1Description: Website Link; ComponentLink1URL: https://www.we-online.com/redexpert/article/691412220010?ad; ComponentLink2Description: Datasheet Link; ComponentLink2URL: https://www.we-online.com/redexpert/spec/691412220010?ad; Manufacturer Part Number: 691412220010; Category: Terminal Blocks; Match Code: WR-TBL; Mount: Through Hole; Operating Temperature Max: 120°C; Operating Temperature Min: -30°C; Packaging: Box; Application: Screwless; Number of Pins: 10; Number of Rows: 1; Orientation: 45°; Pitch: 7mm
footprint 691412220010
pins: 1, 2, 3, 4, 5, 6, 7, 8, 9, 10

## 691412220010M
designator J?  (value not drawn)
WR-TBL Series 4122M 45° Entry, THT, pitch 7mm, 10p; Manufacturer: Wurth Elektronik; Modularity: No; Rated Current: 4A; Working Voltage: 300V; ComponentLink1Description: Website Link; ComponentLink1URL: https://www.we-online.com/redexpert/article/691412220010M?ad; ComponentLink2Description: Datasheet Link; ComponentLink2URL: https://www.we-online.com/redexpert/spec/691412220010M?ad; Manufacturer Part Number: 691412220010M; Category: Terminal Blocks; Match Code: WR-TBL; Mount: Through Hole; Operating Temperature Max: 120°C; Operating Temperature Min: -30°C; Packaging: Box; Application: Screwless; Number of Pins: 10; Number of Rows: 1; Orientation: 45°; Pitch: 7mm
footprint 691412220010M
pins: 1, 2, 3, 4, 5, 6, 7, 8, 9, 10

## 691412220011
designator J?  (value not drawn)
WR-TBL Series 4122 45° Entry, THT, pitch 7mm, 11p; Manufacturer: Wurth Elektronik; Modularity: No; Rated Current: 4A; Working Voltage: 300V; ComponentLink1Description: Website Link; ComponentLink1URL: https://www.we-online.com/redexpert/article/691412220011?ad; ComponentLink2Description: Datasheet Link; ComponentLink2URL: https://www.we-online.com/redexpert/spec/691412220011?ad; Manufacturer Part Number: 691412220011; Category: Terminal Blocks; Match Code: WR-TBL; Mount: Through Hole; Operating Temperature Max: 120°C; Operating Temperature Min: -30°C; Packaging: Box; Application: Screwless; Number of Pins: 11; Number of Rows: 1; Orientation: 45°; Pitch: 7mm
footprint 691412220011
pins: 1, 2, 3, 4, 5, 6, 7, 8, 9, 10, 11

## 691412220011M
designator J?  (value not drawn)
WR-TBL Series 4122M 45° Entry, THT, pitch 7mm, 11p; Manufacturer: Wurth Elektronik; Modularity: No; Rated Current: 4A; Working Voltage: 300V; ComponentLink1Description: Website Link; ComponentLink1URL: https://www.we-online.com/redexpert/article/691412220011M?ad; ComponentLink2Description: Datasheet Link; ComponentLink2URL: https://www.we-online.com/redexpert/spec/691412220011M?ad; Manufacturer Part Number: 691412220011M; Category: Terminal Blocks; Match Code: WR-TBL; Mount: Through Hole; Operating Temperature Max: 120°C; Operating Temperature Min: -30°C; Packaging: Box; Application: Screwless; Number of Pins: 11; Number of Rows: 1; Orientation: 45°; Pitch: 7mm
footprint 691412220011M
pins: 1, 2, 3, 4, 5, 6, 7, 8, 9, 10, 11

## 691412220012
designator J?  (value not drawn)
WR-TBL Series 4122 45° Entry, THT, pitch 7mm, 12p; Manufacturer: Wurth Elektronik; Modularity: No; Rated Current: 4A; Working Voltage: 300V; ComponentLink1Description: Website Link; ComponentLink1URL: https://www.we-online.com/redexpert/article/691412220012?ad; ComponentLink2Description: Datasheet Link; ComponentLink2URL: https://www.we-online.com/redexpert/spec/691412220012?ad; Manufacturer Part Number: 691412220012; Category: Terminal Blocks; Match Code: WR-TBL; Mount: Through Hole; Operating Temperature Max: 120°C; Operating Temperature Min: -30°C; Packaging: Box; Application: Screwless; Number of Pins: 12; Number of Rows: 1; Orientation: 45°; Pitch: 7mm
footprint 691412220012
pins: 1, 2, 3, 4, 5, 6, 7, 8, 9, 10, 11, 12

## 691412220012M
designator J?  (value not drawn)
WR-TBL Series 4122M 45° Entry, THT, pitch 7mm, 12p; Manufacturer: Wurth Elektronik; Modularity: No; Rated Current: 4A; Working Voltage: 300V; ComponentLink1Description: Website Link; ComponentLink1URL: https://www.we-online.com/redexpert/article/691412220012M?ad; ComponentLink2Description: Datasheet Link; ComponentLink2URL: https://www.we-online.com/redexpert/spec/691412220012M?ad; Manufacturer Part Number: 691412220012M; Category: Terminal Blocks; Match Code: WR-TBL; Mount: Through Hole; Operating Temperature Max: 120°C; Operating Temperature Min: -30°C; Packaging: Box; Application: Screwless; Number of Pins: 12; Number of Rows: 1; Orientation: 45°; Pitch: 7mm
footprint 691412220012M
pins: 1, 2, 3, 4, 5, 6, 7, 8, 9, 10, 11, 12

## 691412320002
designator J?  (value not drawn)
WR-TBL Series 4123 45° Entry, THT, pitch 3.81mm, 2p; Manufacturer: Wurth Elektronik; Modularity: No; Rated Current: 4A; Working Voltage: 300V; ComponentLink1Description: Website Link; ComponentLink1URL: https://www.we-online.com/redexpert/article/691412320002?ad; ComponentLink2Description: Datasheet Link; ComponentLink2URL: https://www.we-online.com/redexpert/spec/691412320002?ad; Manufacturer Part Number: 691412320002; Category: Terminal Blocks; Match Code: WR-TBL; Mount: Through Hole; Operating Temperature Max: 120°C; Operating Temperature Min: -30°C; Packaging: Box; Application: Screwless; Number of Pins: 2; Number of Rows: 1; Orientation: 45°; Pitch: 3.81mm
footprint 691412320002
pins: 1, 2

## 691412320002M
designator J?  (value not drawn)
WR-TBL Series 4123M 45° Entry, THT, pitch 3.81mm, 2p; Manufacturer: Wurth Elektronik; Modularity: No; Rated Current: 4A; Working Voltage: 300V; ComponentLink1Description: Website Link; ComponentLink1URL: https://www.we-online.com/redexpert/article/691412320002M?ad; ComponentLink2Description: Datasheet Link; ComponentLink2URL: https://www.we-online.com/redexpert/spec/691412320002M?ad; Manufacturer Part Number: 691412320002M; Category: Terminal Blocks; Match Code: WR-TBL; Mount: Through Hole; Operating Temperature Max: 120°C; Operating Temperature Min: -30°C; Packaging: Box; Application: Screwless; Number of Pins: 2; Number of Rows: 1; Orientation: 45°; Pitch: 3.81mm
footprint 691412320002M
pins: 1, 2

## 691412320003
designator J?  (value not drawn)
WR-TBL Series 4123 45° Entry, THT, pitch 3.81mm, 3p; Manufacturer: Wurth Elektronik; Modularity: No; Rated Current: 4A; Working Voltage: 300V; ComponentLink1Description: Website Link; ComponentLink1URL: https://www.we-online.com/redexpert/article/691412320003?ad; ComponentLink2Description: Datasheet Link; ComponentLink2URL: https://www.we-online.com/redexpert/spec/691412320003?ad; Manufacturer Part Number: 691412320003; Category: Terminal Blocks; Match Code: WR-TBL; Mount: Through Hole; Operating Temperature Max: 120°C; Operating Temperature Min: -30°C; Packaging: Box; Application: Screwless; Number of Pins: 3; Number of Rows: 1; Orientation: 45°; Pitch: 3.81mm
footprint 691412320003
pins: 1, 2, 3

## 691412320003M
designator J?  (value not drawn)
WR-TBL Series 4123M 45° Entry, THT, pitch 3.81mm, 3p; Manufacturer: Wurth Elektronik; Modularity: No; Rated Current: 4A; Working Voltage: 300V; ComponentLink1Description: Website Link; ComponentLink1URL: https://www.we-online.com/redexpert/article/691412320003M?ad; ComponentLink2Description: Datasheet Link; ComponentLink2URL: https://www.we-online.com/redexpert/spec/691412320003M?ad; Manufacturer Part Number: 691412320003M; Category: Terminal Blocks; Match Code: WR-TBL; Mount: Through Hole; Operating Temperature Max: 120°C; Operating Temperature Min: -30°C; Packaging: Box; Application: Screwless; Number of Pins: 3; Number of Rows: 1; Orientation: 45°; Pitch: 3.81mm
footprint 691412320003M
pins: 1, 2, 3

## 691412320004
designator J?  (value not drawn)
WR-TBL Series 4123 45° Entry, THT, pitch 3.81mm, 4p; Manufacturer: Wurth Elektronik; Modularity: No; Rated Current: 4A; Working Voltage: 300V; ComponentLink1Description: Website Link; ComponentLink1URL: https://www.we-online.com/redexpert/article/691412320004?ad; ComponentLink2Description: Datasheet Link; ComponentLink2URL: https://www.we-online.com/redexpert/spec/691412320004?ad; Manufacturer Part Number: 691412320004; Category: Terminal Blocks; Match Code: WR-TBL; Mount: Through Hole; Operating Temperature Max: 120°C; Operating Temperature Min: -30°C; Packaging: Box; Application: Screwless; Number of Pins: 4; Number of Rows: 1; Orientation: 45°; Pitch: 3.81mm
footprint 691412320004
pins: 1, 2, 3, 4

## 691412320004M
designator J?  (value not drawn)
WR-TBL Series 4123M 45° Entry, THT, pitch 3.81mm, 4p; Manufacturer: Wurth Elektronik; Modularity: No; Rated Current: 4A; Working Voltage: 300V; ComponentLink1Description: Website Link; ComponentLink1URL: https://www.we-online.com/redexpert/article/691412320004M?ad; ComponentLink2Description: Datasheet Link; ComponentLink2URL: https://www.we-online.com/redexpert/spec/691412320004M?ad; Manufacturer Part Number: 691412320004M; Category: Terminal Blocks; Match Code: WR-TBL; Mount: Through Hole; Operating Temperature Max: 120°C; Operating Temperature Min: -30°C; Packaging: Box; Application: Screwless; Number of Pins: 4; Number of Rows: 1; Orientation: 45°; Pitch: 3.81mm
footprint 691412320004M
pins: 1, 2, 3, 4